# Altium footprint library Cooper_LD2.PcbLib: 1 footprints
Each footprint in its own frame and in the unit in brackets; x right, y up, seen from the top. Pads: shape width x height; smd on the part's side, far side on the other; paste and mask are expansions set on the pad; w line width, h text height; cw(c..) or ccw(c..) is an arc to the next point about the centre after c.
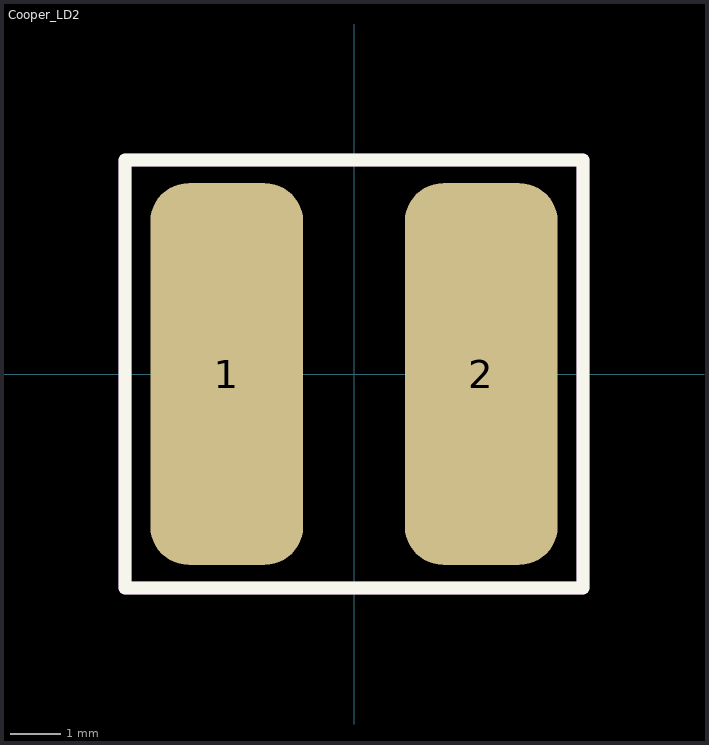
[diagram p0: the footprint, top view; thin cyan lines are the x and y axes]

## Cooper_LD2 [mm] "Cooper LD2 series"
height 5.3
pads (2):
  rrect50% 3x7.5 smd: 1(-2.5,0) 2(2.5,0)
Top Overlay:
  lines w0.254: -4.5,-4.2 4.5,-4.2 4.5,4.2 -4.5,4.2 -4.5,-4.2
Mechanical 15:
  lines w0.254: -4.5,-4.2 -4.5,4.2 4.5,4.2 4.5,-4.2 -4.5,-4.2
3D body: height 5.3, standoff 0, extent -3.9,-3.5 3.9,3.5